# Altium schematic symbol library ICs.SchLib: 8 symbols
Pins are listed as number, name and electrical type; pins without a type are passive.

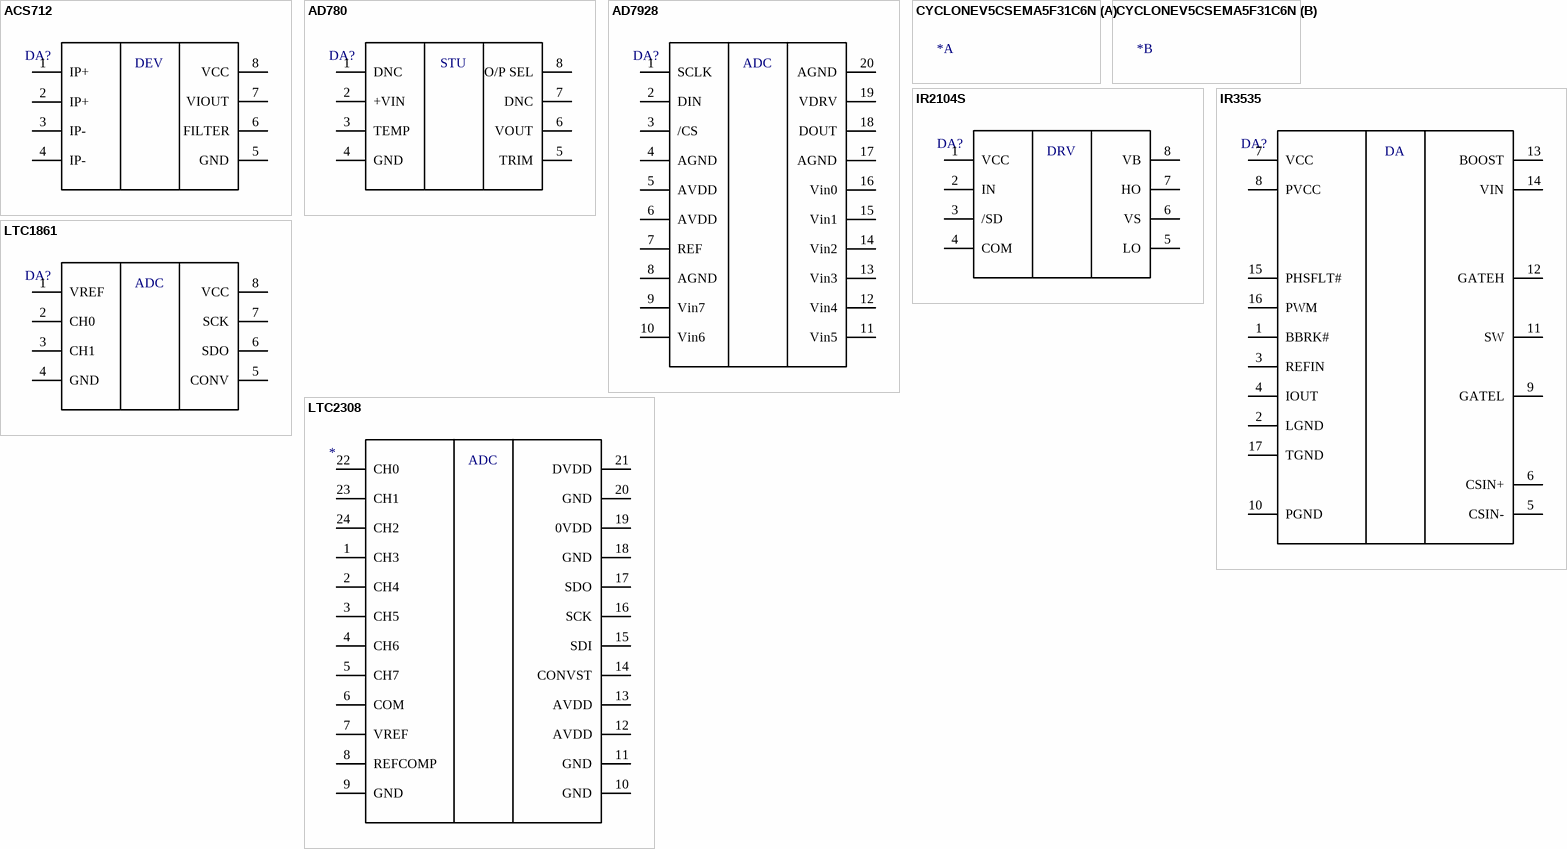
[diagram p0: symbols ACS712 to LTC2308]

## ACS712
designator DA?  (value not drawn)
ALLEGRO MICROSYSTEMS CS712ELCTR-30A-T; Supplier 1: Digi-Key; Supplier Part Number 1: 620-1191-1-ND
footprint SOIC127P600X175-8N (SOIC, 8-Leads, Body 4,90x3,90mm, Pitch 1,27mm, IPC Medium Density)
pins: 1 IP+, 2 IP+, 3 IP-, 4 IP-, 5 GND, 6 FILTER, 7 VIOUT, 8 VCC
text: DEV

## AD780
designator DA?  (value not drawn)
Supplier 1: Digi-Key; Supplier Part Number 1: AD780BRZ-ND
footprint SOIC127P600X175-8N (SOIC, 8-Leads, Body 4,90x3,90mm, Pitch 1,27mm, IPC Medium Density)
pins: 1 DNC, 2 +VIN, 3 TEMP, 4 GND, 5 TRIM, 6 VOUT, 7 DNC, 8 O/P SEL
text: STU

## AD7928
designator DA?  (value not drawn)
Supplier 1: Digi-Key; Supplier Part Number 1: AD7928WBRUZ-REELCT-ND
footprint TSOP65P640X120-20N (TSOP, 20-Leads, Body 6,50x4,40mm, Pitch 0,65mm, IPC Medium Density)
pins: 1 SCLK, 2 DIN, 3 /CS, 4 AGND, 5 AVDD, 6 AVDD, 7 REF, 8 AGND, 9 Vin7, 10 Vin6, 11 Vin5, 12 Vin4, 13 Vin3, 14 Vin2, 15 Vin1, 16 Vin0, 17 AGND, 18 DOUT, 19 VDRV, 20 AGND
text: ADC

## CYCLONEV5CSEMA5F31C6N
designator *  (value not drawn)
Supplier 1: Digi-Key; Supplier Part Number 1: 544-3539-ND
footprint BGA896C100P30X30_3100X3100X240 (BGA, 896-Leads, Body 31,00x31,00mmx2,40mm, Pitch 1,00mm)

## IR2104S
designator DA?  (value not drawn)
IC, MOSFET DRIVER, HIGH/LOW SIDE, SOIC-8; Supplier 1: Digi-Key; Supplier Part Number 1: IR2104SPBF-ND
footprint SOIC127P600X175-8N (SOIC, 8-Leads, Body 4,90x3,90mm, Pitch 1,27mm, IPC Medium Density)
pins: 1 VCC, 2 IN, 3 /SD, 4 COM, 5 LO, 6 VS, 7 HO, 8 VB
text: DRV

## IR3535
designator DA?  (value not drawn)
Supplier 1: Digi-Key; Supplier Part Number 1: IR3535MTRPBF-ND
footprint PQFN50P300X300X90_HS-17N (PQFN, 16-Leads, Body 3,00x3,00mm, Pitch 0,50mm, Thermal Pad 1,80x1,80mm, IPC Medium Density)
pins: 1 BBRK#, 2 LGND, 3 REFIN, 4 IOUT, 5 CSIN-, 6 CSIN+, 7 VCC, 8 PVCC, 9 GATEL, 10 PGND, 11 SW, 12 GATEH, 13 BOOST, 14 VIN, 15 PHSFLT#, 16 PWM, 17 TGND
text: DA

## LTC1861
designator DA?  (value not drawn)
Supplier 1: Digi-Key; Supplier Part Number 1: LTC1861CS8#PBF-ND
footprint SOP127P600X175-8N (SOP, 8-Leads, Body 4,90x3,90mm, Pitch 1,27mm, IPC Medium Density)
pins: 1 VREF, 2 CH0, 3 CH1, 4 GND, 5 CONV, 6 SDO, 7 SCK, 8 VCC
text: ADC

## LTC2308
designator *  (value not drawn)
Supplier 1: Digi-Key; Supplier Part Number 1: LTC2308CUF#PBF-ND
pins: 1 CH3, 2 CH4, 3 CH5, 4 CH6, 5 CH7, 6 COM, 7 VREF, 8 REFCOMP, 9 GND, 10 GND, 11 GND, 12 AVDD, 13 AVDD, 14 CONVST, 15 SDI, 16 SCK, 17 SDO, 18 GND, 19 0VDD, 20 GND, 21 DVDD, 22 CH0, 23 CH1, 24 CH2
text: ADC